# EAGLE library part MCP7383* (library IC_Power-Management)
Li-Ion / Li-Polymer Charge Management Controller Datasheet <https://ww1.microchip.com/downloads/en/DeviceDoc/22005b.pdf>
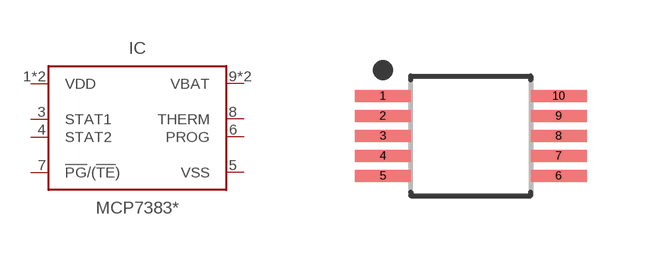
[diagram p24: symbol with the pads of SOP50P490X110-10; footprint SOP50P490X110-10]

Designator prefix IC

## MCP73833-AMI/UN (CATEGORY: IC_Power-Management; DESCRIPTION: Charger IC Lithium Ion/Polymer 10-MSOP; MANUFACTURER: Microchip Technology; MPN: MCP73833-AMI/UN; OPERATING_TEMP: -40°C to 125°C; PART_STATUS: Active; ROHS_COMPLIANT: COMPLIANT; SERIES: -; SUB-CATEGORY: Battery Charger), MCP73833-BZI/UN (CATEGORY: IC_Power-Management; DESCRIPTION: Charger IC Lithium Ion/Polymer 10-MSOP; MANUFACTURER: Microchip Technology; MPN: MCP73833-BZI/UN; OPERATING_TEMP: -40°C to 125°C; PART_STATUS: Active; ROHS_COMPLIANT: COMPLIANT; SERIES: -; SUB-CATEGORY: Battery Charger), MCP73833-CNI/UN (CATEGORY: IC_Power-Management; DESCRIPTION: Charger IC Lithium Ion/Polymer 10-MSOP; MANUFACTURER: Microchip Technology; MPN: MCP73833-CNI/UN; OPERATING_TEMP: -40°C to 125°C; PART_STATUS: Active; ROHS_COMPLIANT: COMPLIANT; SERIES: -; SUB-CATEGORY: Battery Charger), MCP73833-FCI/UN (CATEGORY: IC_Power-Management; DESCRIPTION: Charger IC Lithium Ion/Polymer 10-MSOP; MANUFACTURER: Microchip Technology; MPN: MCP73833-FCI/UN; OPERATING_TEMP: -40°C to 125°C; PART_STATUS: Active; ROHS_COMPLIANT: COMPLIANT; SERIES: -; SUB-CATEGORY: Battery Charger), MCP73833-GPI/UN (CATEGORY: IC_Power-Management; DESCRIPTION: Charger IC Lithium Ion/Polymer 10-MSOP; MANUFACTURER: Microchip Technology; MPN: MCP73833-GPI/UN; OPERATING_TEMP: -40°C to 125°C; PART_STATUS: Active; ROHS_COMPLIANT: COMPLIANT; SERIES: -; SUB-CATEGORY: Battery Charger), MCP73833-NVI/UN (CATEGORY: IC_Power-Management; DESCRIPTION: Charger IC Lithium Ion/Polymer 10-MSOP; MANUFACTURER: Microchip Technology; MPN: MCP73833-NVI/UN; OPERATING_TEMP: -40°C to 125°C; PART_STATUS: Active; ROHS_COMPLIANT: COMPLIANT; SERIES: -; SUB-CATEGORY: Battery Charger), MCP73834-CNI/UN (CATEGORY: IC_Power-Management; DESCRIPTION: Charger IC Lithium Ion/Polymer 10-MSOP; MANUFACTURER: Microchip Technology; MPN: MCP73834-CNI/UN; OPERATING_TEMP: -40°C to 125°C; PART_STATUS: Active; ROHS_COMPLIANT: COMPLIANT; SERIES: -; SUB-CATEGORY: Battery Charger), MCP73834-FCI/UN (CATEGORY: IC_Power-Management; DESCRIPTION: Charger IC Lithium Ion/Polymer 10-MSOP; MANUFACTURER: Microchip Technology; MPN: MCP73834-FCI/UN; OPERATING_TEMP: -40°C to 125°C; PART_STATUS: Active; ROHS_COMPLIANT: COMPLIANT; SERIES: -; SUB-CATEGORY: Battery Charger), MCP73834-GPI/UN (CATEGORY: IC_Power-Management; DESCRIPTION: Charger IC Lithium Ion/Polymer 10-MSOP; MANUFACTURER: Microchip Technology; MPN: MCP73834-GPI/UN; OPERATING_TEMP: -40°C to 125°C; PART_STATUS: Active; ROHS_COMPLIANT: COMPLIANT; SERIES: -; SUB-CATEGORY: Battery Charger), MCP73834-NVI/UN (CATEGORY: IC_Power-Management; DESCRIPTION: Charger IC Lithium Ion/Polymer 10-MSOP; MANUFACTURER: Microchip Technology; MPN: MCP73834-NVI/UN; OPERATING_TEMP: -40°C to 125°C; PART_STATUS: Active; ROHS_COMPLIANT: COMPLIANT; SERIES: -; SUB-CATEGORY: Battery Charger)  [SOP50P490X110-10]
1  VDD  pwr
2  VDD  pwr
3  STAT1  out
4  STAT2  out
5  VSS  pwr
6  PROG  in
7  !PG!/(!TE!)
8  THERM  in
9  VBAT  out
10  VBAT  out

## Footprint SOP50P490X110-10 (pad centres in mm)
10-SOP, 0.50 mm pitch, 4.90 mm span, 3.00 X 3.00 X 1.10 mm body 10-pin SOP package with 0.50 mm pitch, 4.90 mm span with body size 3.00 X 3.00 X 1.10 mm
smd 1.4 x 0.3: 1 -2.2,1; 2 -2.2,0.5; 3 -2.2,0; 4 -2.2,-0.5; 5 -2.2,-1; 6 2.2,-1; 7 2.2,-0.5; 8 2.2,0; 9 2.2,0.5; 10 2.2,1